# EAGLE library part MC9S12XF-144 (library freescale)
MC9S12XF512 Source: www.freescale.com .. MC9S12XF512V1RM.pdf
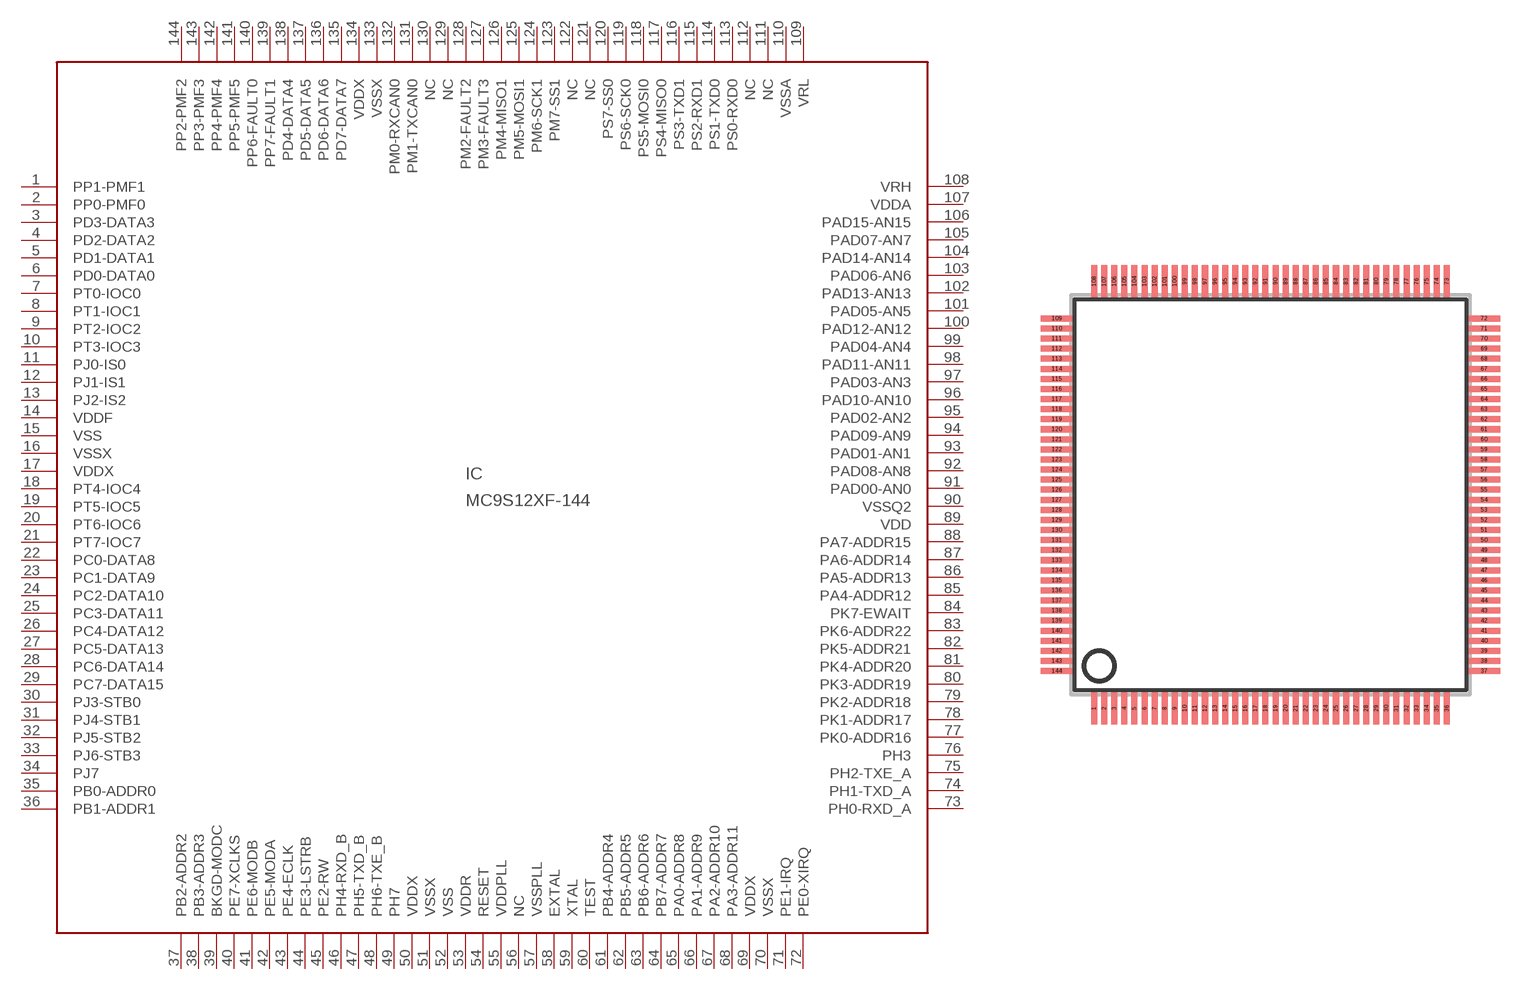
[diagram p8: symbol with the pads of SQFP-S-20X20-144; footprint SQFP-S-20X20-144]

Designator prefix IC

## MC9S12XF-144 (MPN: LFDAS12XFLT; OC_FARNELL: unknown; OC_NEWARK: 14M5920)  [SQFP-S-20X20-144]
1  PP1-PMF1
2  PP0-PMF0
3  PD3-DATA3
4  PD2-DATA2
5  PD1-DATA1
6  PD0-DATA0
7  PT0-IOC0
8  PT1-IOC1
9  PT2-IOC2
10  PT3-IOC3
11  PJ0-IS0
12  PJ1-IS1
13  PJ2-IS2
14  VDDF  pwr
15  VSS  pwr
16  VSSX  pwr
17  VDDX  pwr
18  PT4-IOC4
19  PT5-IOC5
20  PT6-IOC6
21  PT7-IOC7
22  PC0-DATA8
23  PC1-DATA9
24  PC2-DATA10
25  PC3-DATA11
26  PC4-DATA12
27  PC5-DATA13
28  PC6-DATA14
29  PC7-DATA15
30  PJ3-STB0
31  PJ4-STB1
32  PJ5-STB2
33  PJ6-STB3
34  PJ7
35  PB0-ADDR0
36  PB1-ADDR1
37  PB2-ADDR2
38  PB3-ADDR3
39  BKGD-MODC
40  PE7-XCLKS
41  PE6-MODB
42  PE5-MODA
43  PE4-ECLK
44  PE3-LSTRB
45  PE2-RW
46  PH4-RXD_B
47  PH5-TXD_B
48  PH6-TXE_B
49  PH7
50  VDDX  pwr
51  VSSX  pwr
52  VSS  pwr
53  VDDR  pwr
54  RESET
55  VDDPLL  pwr
56  NC  nc
57  VSSPLL  pwr
58  EXTAL  pas
59  XTAL  pas
60  TEST  in
61  PB4-ADDR4
62  PB5-ADDR5
63  PB6-ADDR6
64  PB7-ADDR7
65  PA0-ADDR8
66  PA1-ADDR9
67  PA2-ADDR10
68  PA3-ADDR11
69  VDDX  pwr
70  VSSX  pwr
71  PE1-IRQ  in
72  PE0-XIRQ  in
73  PH0-RXD_A
74  PH1-TXD_A
75  PH2-TXE_A
76  PH3
77  PK0-ADDR16
78  PK1-ADDR17
79  PK2-ADDR18
80  PK3-ADDR19
81  PK4-ADDR20
82  PK5-ADDR21
83  PK6-ADDR22
84  PK7-EWAIT
85  PA4-ADDR12
86  PA5-ADDR13
87  PA6-ADDR14
88  PA7-ADDR15
89  VDD  pwr
90  VSSQ2  pwr
91  PAD00-AN0
92  PAD08-AN8
93  PAD01-AN1
94  PAD09-AN9
95  PAD02-AN2
96  PAD10-AN10
97  PAD03-AN3
98  PAD11-AN11
99  PAD04-AN4
100  PAD12-AN12
101  PAD05-AN5
102  PAD13-AN13
103  PAD06-AN6
104  PAD14-AN14
105  PAD07-AN7
106  PAD15-AN15
107  VDDA  pwr
108  VRH  pwr
109  VRL  pwr
110  VSSA  pwr
111  NC  nc
112  NC  nc
113  PS0-RXD0
114  PS1-TXD0
115  PS2-RXD1
116  PS3-TXD1
117  PS4-MISO0
118  PS5-MOSI0
119  PS6-SCK0
120  PS7-SS0
121  NC  nc
122  NC  nc
123  PM7-SS1
124  PM6-SCK1
125  PM5-MOSI1
126  PM4-MISO1
127  PM3-FAULT3
128  PM2-FAULT2
129  NC  nc
130  NC  nc
131  PM1-TXCAN0
132  PM0-RXCAN0
133  VSSX  pwr
134  VDDX  pwr
135  PD7-DATA7
136  PD6-DATA6
137  PD5-DATA5
138  PD4-DATA4
139  PP7-FAULT1
140  PP6-FAULT0
141  PP5-PMF5
142  PP4-PMF4
143  PP3-PMF3
144  PP2-PMF2

## Footprint SQFP-S-20X20-144 (pad centres in mm)
QFP144 shrink quad flat pack, square
smd 0.3 x 1.6: 1 -8.75,-10.6; 2 -8.25,-10.6; 3 -7.75,-10.6; 4 -7.25,-10.6; 5 -6.75,-10.6; 6 -6.25,-10.6; 7 -5.75,-10.6; 8 -5.25,-10.6; 9 -4.75,-10.6; 10 -4.25,-10.6; 11 -3.75,-10.6; 12 -3.25,-10.6; 13 -2.75,-10.6; 14 -2.25,-10.6; 15 -1.75,-10.6; 16 -1.25,-10.6; 17 -0.75,-10.6; 18 -0.25,-10.6; 19 0.25,-10.6; 20 0.75,-10.6; 21 1.25,-10.6; 22 1.75,-10.6; 23 2.25,-10.6; 24 2.75,-10.6; 25 3.25,-10.6; 26 3.75,-10.6; 27 4.25,-10.6; 28 4.75,-10.6; 29 5.25,-10.6; 30 5.75,-10.6; 31 6.25,-10.6; 32 6.75,-10.6; 33 7.25,-10.6; 34 7.75,-10.6; 35 8.25,-10.6; 36 8.75,-10.6; 73 8.75,10.6; 74 8.25,10.6; 75 7.75,10.6; 76 7.25,10.6; 77 6.75,10.6; 78 6.25,10.6; 79 5.75,10.6; 80 5.25,10.6; 81 4.75,10.6; 82 4.25,10.6; 83 3.75,10.6; 84 3.25,10.6; 85 2.75,10.6; 86 2.25,10.6; 87 1.75,10.6; 88 1.25,10.6; 89 0.75,10.6; 90 0.25,10.6; 91 -0.25,10.6; 92 -0.75,10.6; 93 -1.25,10.6; 94 -1.75,10.6; 95 -2.25,10.6; 96 -2.75,10.6; 97 -3.25,10.6; 98 -3.75,10.6; 99 -4.25,10.6; 100 -4.75,10.6; 101 -5.25,10.6; 102 -5.75,10.6; 103 -6.25,10.6; 104 -6.75,10.6; 105 -7.25,10.6; 106 -7.75,10.6; 107 -8.25,10.6; 108 -8.75,10.6
smd 1.6 x 0.3: 37 10.6,-8.75; 38 10.6,-8.25; 39 10.6,-7.75; 40 10.6,-7.25; 41 10.6,-6.75; 42 10.6,-6.25; 43 10.6,-5.75; 44 10.6,-5.25; 45 10.6,-4.75; 46 10.6,-4.25; 47 10.6,-3.75; 48 10.6,-3.25; 49 10.6,-2.75; 50 10.6,-2.25; 51 10.6,-1.75; 52 10.6,-1.25; 53 10.6,-0.75; 54 10.6,-0.25; 55 10.6,0.25; 56 10.6,0.75; 57 10.6,1.25; 58 10.6,1.75; 59 10.6,2.25; 60 10.6,2.75; 61 10.6,3.25; 62 10.6,3.75; 63 10.6,4.25; 64 10.6,4.75; 65 10.6,5.25; 66 10.6,5.75; 67 10.6,6.25; 68 10.6,6.75; 69 10.6,7.25; 70 10.6,7.75; 71 10.6,8.25; 72 10.6,8.75; 109 -10.6,8.75; 110 -10.6,8.25; 111 -10.6,7.75; 112 -10.6,7.25; 113 -10.6,6.75; 114 -10.6,6.25; 115 -10.6,5.75; 116 -10.6,5.25; 117 -10.6,4.75; 118 -10.6,4.25; 119 -10.6,3.75; 120 -10.6,3.25; 121 -10.6,2.75; 122 -10.6,2.25; 123 -10.6,1.75; 124 -10.6,1.25; 125 -10.6,0.75; 126 -10.6,0.25; 127 -10.6,-0.25; 128 -10.6,-0.75; 129 -10.6,-1.25; 130 -10.6,-1.75; 131 -10.6,-2.25; 132 -10.6,-2.75; 133 -10.6,-3.25; 134 -10.6,-3.75; 135 -10.6,-4.25; 136 -10.6,-4.75; 137 -10.6,-5.25; 138 -10.6,-5.75; 139 -10.6,-6.25; 140 -10.6,-6.75; 141 -10.6,-7.25; 142 -10.6,-7.75; 143 -10.6,-8.25; 144 -10.6,-8.75